# EAGLE library part 74AHCT125 (library Custom Parts)
74AHCT125 3.3v to 5V
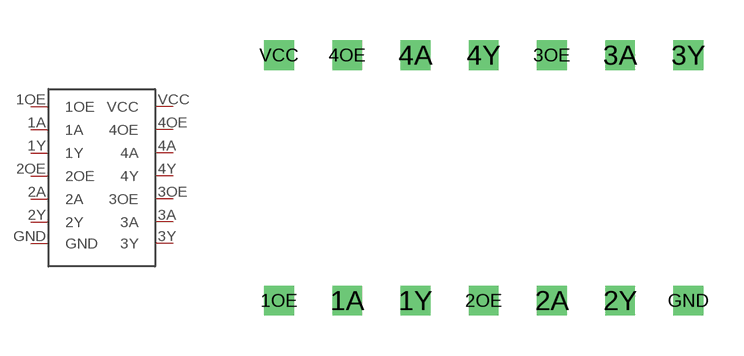
[diagram p0: symbol with the pads of 74AHCT125; footprint 74AHCT125]

Designator prefix -

## 74AHCT125  [74AHCT125]
1A  1A
1OE  1OE
1Y  1Y
2A  2A
2OE  2OE
2Y  2Y
3A  3A
3OE  3OE
3Y  3Y
4A  4A
4OE  4OE
4Y  4Y
GND  GND
VCC  VCC

## Footprint 74AHCT125 (pad centres in mm)
drill 0.6 square: 1A 4.826,-0.762; 1OE 2.286,-0.762; 1Y 7.366,-0.762; 2A 12.446,-0.762; 2OE 9.906,-0.762; 2Y 14.986,-0.762; 3A 14.986,8.382; 3OE 12.446,8.382; 3Y 17.526,8.382; 4A 7.366,8.382; 4OE 4.826,8.382; 4Y 9.906,8.382; GND 17.526,-0.762; VCC 2.286,8.382